# Altium footprint library NCP51820.PcbLib: 1 footprints
Each footprint in its own frame and in the unit in brackets; x right, y up, seen from the top. Pads: shape width x height; smd on the part's side, far side on the other; paste and mask are expansions set on the pad; w line width, h text height; cw(c..) or ccw(c..) is an arc to the next point about the centre after c.
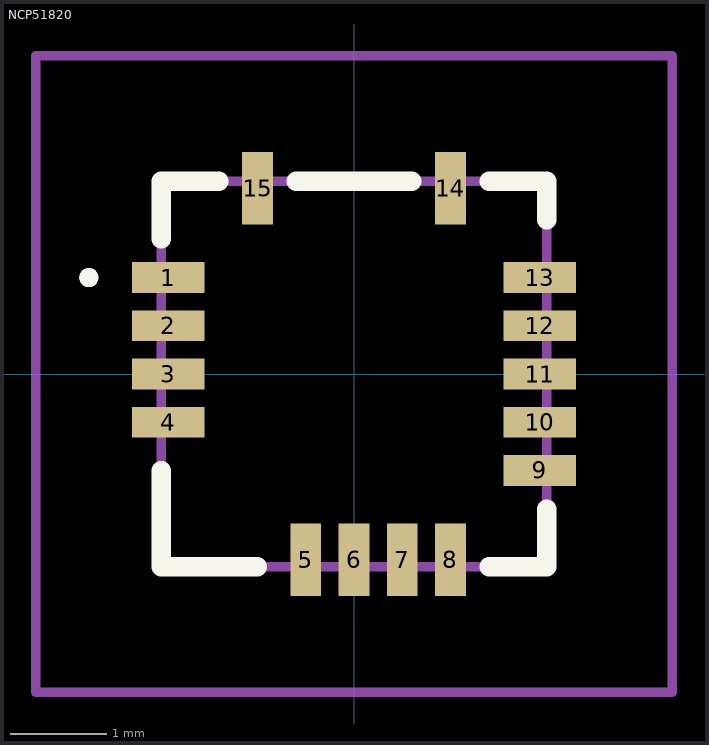
[diagram p0: the footprint, top view; thin cyan lines are the x and y axes]

## NCP51820 [mm]
pads (15):
  rect 0.75x0.32 smd: 1(-1.925,1) 2(-1.925,0.5) 3(-1.925,0) 4(-1.925,-0.5) 9(1.925,-1) 10(1.925,-0.5) 11(1.925,0) 12(1.925,0.5) 13(1.925,1)
  rect 0.32x0.75 smd: 5(-0.5,-1.925) 6(0,-1.925) 7(0.5,-1.925) 8(1,-1.925) 14(1,1.925) 15(-1,1.925)
Top Overlay:
  lines w0.1: -2.8,1 -2.8,1 ; -2.8,1 ccw(c-2.75,1) -2.7,1 ; -2.8,1 cw(c-2.75,1) -2.7,1 ; -2.7,1 -2.7,1
  lines w0.2: -2,-1 -2,-2 -1,-2 ; -2,1.4 -2,2 -1.6,2 -1.4,2 ; -0.6,2 0.6,2 ; 1.4,-2 2,-2 2,-1.4 ; 1.4,2 2,2 2,1.6
Mechanical 15:
  lines w0.1: -2,-2 2,-2 2,2 -2,2 -2,-2
Mechanical 20:
  lines w0.1: -3.3,-3.3 3.3,-3.3 3.3,3.3 -3.3,3.3 -3.3,-3.3